# Altium footprint library Sensor_Voltage.PcbLib: 1 footprints
Each footprint in its own frame and in the unit in brackets; x right, y up, seen from the top. Pads: shape width x height; smd on the part's side, far side on the other; paste and mask are expansions set on the pad; w line width, h text height; cw(c..) or ccw(c..) is an arc to the next point about the centre after c.
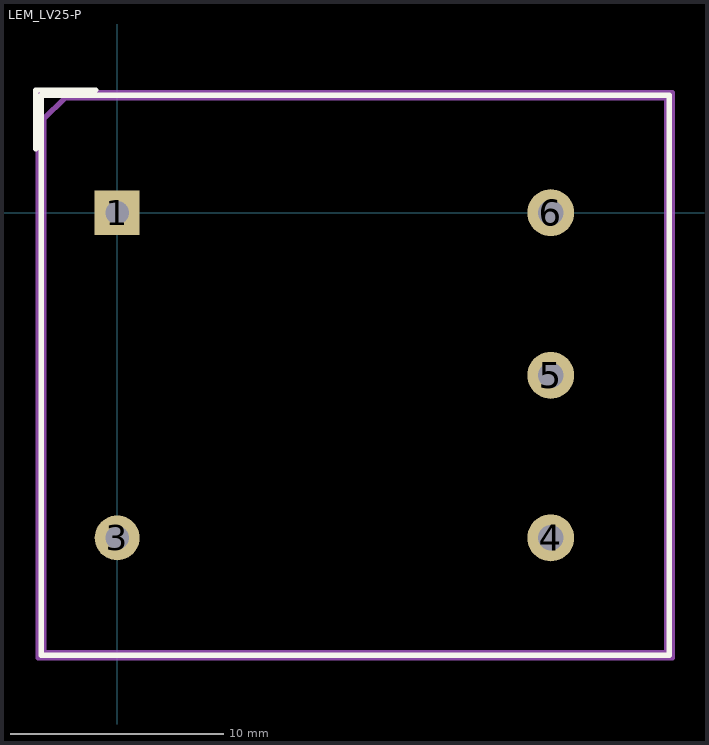
[diagram p0: the footprint, top view; thin cyan lines are the x and y axes]

## LEM_LV25-P [mm]
pads (5):
  rect 2.1x2.1 hole 1.1: 1(0,0)
  round 2.1 hole 1.1: 3(0,-15.24)
  round 2.2 hole 1.2: 4(20.32,-15.24) 5(20.32,-7.62) 6(20.32,0)
F.SilkS:
  lines w0.254: -3.81,3 -3.81,5.75 -1,5.75 ; -3.56,-20.74 -3.56,5.5 25.88,5.5 25.88,-20.74 -3.56,-20.74
F.Fab:
  lines w0.254: -3.44,-20.62 -3.44,4.38 -2.44,5.38 25.76,5.38 25.76,-20.62 -3.44,-20.62
  text "'.Designator'" at 7.113,-7.46 h1
F.CrtYd:
  lines w0.254: -3.69,-20.87 -3.69,5.63 26.01,5.63 26.01,-20.87 -3.69,-20.87
3D body "LEM_LV25-P.step": height 16.4, standoff -4.5, extent -3.34,-20.62 25.86,5.38